# Altium footprint library Blueberry_PS.PcbLib: 38 footprints (part 2 of 3)
Each footprint in its own frame and in the unit in brackets; x right, y up, seen from the top. Pads: shape width x height; smd on the part's side, far side on the other; paste and mask are expansions set on the pad; w line width, h text height; cw(c..) or ccw(c..) is an arc to the next point about the centre after c.
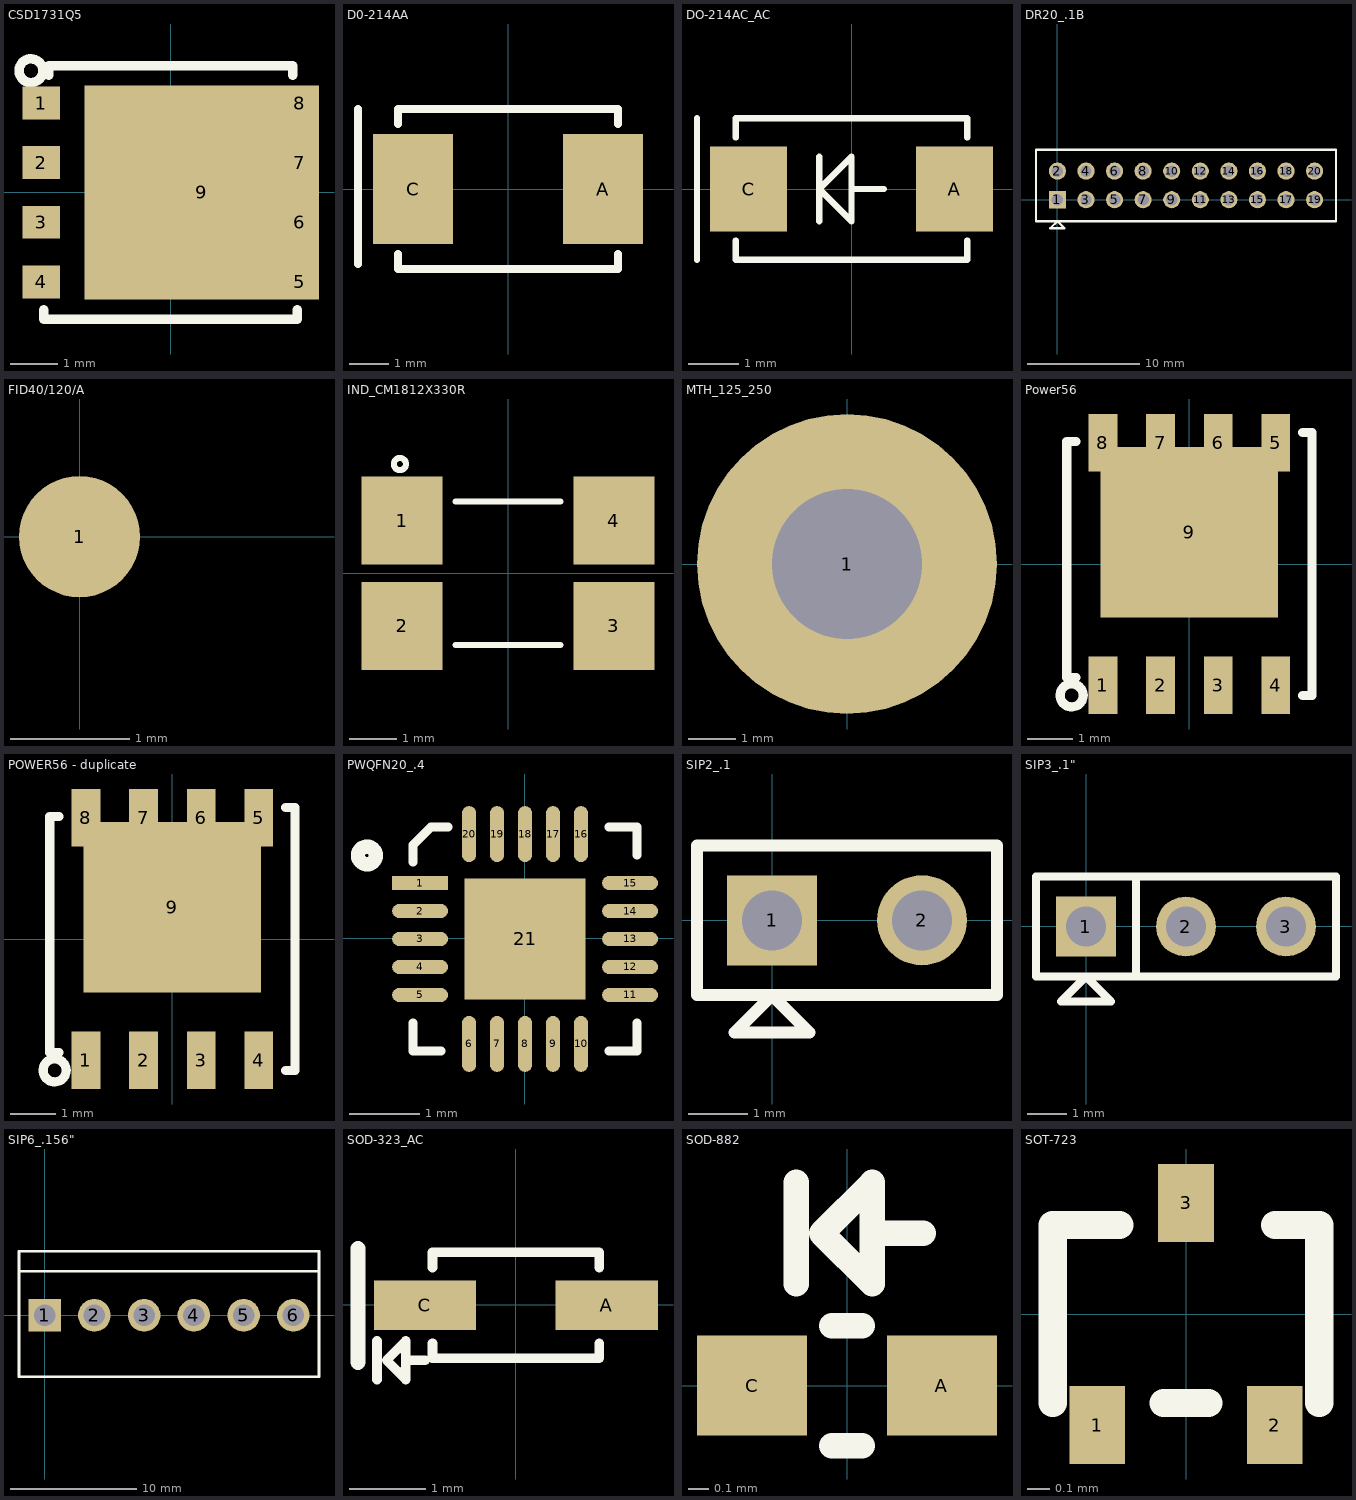
[diagram p1: the footprints below, top view; thin cyan lines are the x and y axes]

## CSD1731Q5 [mm]
pads (9):
  rect 0.8x0.7 smd: 1(-2.752,1.905) 2(-2.752,0.635) 3(-2.752,-0.635) 4(-2.752,-1.905) 5(2.752,-1.905) 6(2.752,-0.635) 7(2.752,0.635) 8(2.752,1.905)
  rect 5x4.56 smd: 9(0.66,0)
Top Overlay:
  circle w0.203: c-2.976,2.594 r0.254
  lines w0.203: -2.7,-2.5 -2.7,-2.7 2.7,-2.7 2.7,-2.5 ; -2.6,2.5 -2.6,2.7 2.6,2.7 2.6,2.5

## D0-214AA [mil]
pads (2):
  rect 80x110 smd: A(95,0) C(-95,0)
Top Overlay:
  lines w8: -150,-75 -150,80 ; -110,-65 -110,-80 110,-80 110,-65 ; -110,65 -110,80 110,80 110,65

## DO-214AC_AC [mil]
pads (2):
  rect 60x66 smd: A(80,0) C(-80,0)
Top Overlay:
  lines w5: -120,-55 -120,55 ; -90,-40 -90,-55 90,-55 90,-40 ; -90,40 -90,55 90,55 90,40 ; -25,-25 -25,25 ; 0,0 25,0 ; -25,0 0,25 0,-25 -25,0

## DR20_.1B [mil]
pads (20):
  rect 60x60 hole 40: 1(0,0)
  round 60 hole 40: 2(0,100) 3(100,0) 4(100,100) 5(200,0) 6(200,100) 7(300,0) 8(300,100) 9(400,0) 10(400,100) 11(500,0) 12(500,100) 13(600,0) 14(600,100) 15(700,0) 16(700,100) 17(800,0) 18(800,100) 19(900,0) 20(900,100)
Top Overlay:
  lines w8: -75,-75 975,-75 975,175 -75,175 -75,-75 ; -25,-100 25,-100 0,-75 -25,-100

## FID40/120/A [mil]
pads (1):
  round 40 smd: 1(0,0)
Top Overlay:

## IND_CM1812X330R [mm]
pads (4):
  rect 1.689x1.841 smd: 1(-2.214,1.101) 2(-2.214,-1.101) 3(2.214,-1.101) 4(2.214,1.101)
Top Overlay:
  circle w0.127: c-2.259,2.284 r0.127
  lines w0.127: -1.1,-1.5 1.1,-1.5 ; -1.1,1.5 1.1,1.5

## MTH_125_250 [mm]
pads (1):
  round 6.35 hole 3.175: 1(0,0)

## Power56 [mm]
pads (9):
  rect 0.635x1.27 smd: 1(-1.905,-2.67) 2(-0.635,-2.67) 3(0.635,-2.67) 4(1.905,-2.67) 5(1.905,2.67) 6(0.635,2.67) 7(-0.635,2.67) 8(-1.905,2.67)
  rect 3.91x3.75 smd: 9(0,0.7)
Top Overlay:
  circle w0.203: c-2.594,-2.894 r0.254
  lines w0.203: -2.5,-2.5 -2.7,-2.5 -2.7,2.7 -2.5,2.7 ; 2.5,-2.9 2.7,-2.9 2.7,2.9 2.5,2.9

## POWER56 - duplicate [mm]
pads (9):
  rect 0.635x1.27 smd: 1(-1.905,-2.67) 2(-0.635,-2.67) 3(0.635,-2.67) 4(1.905,-2.67) 5(1.905,2.67) 6(0.635,2.67) 7(-0.635,2.67) 8(-1.905,2.67)
  rect 3.91x3.75 smd: 9(0,0.7)
Top Overlay:
  circle w0.203: c-2.594,-2.894 r0.254
  lines w0.203: -2.5,-2.5 -2.7,-2.5 -2.7,2.7 -2.5,2.7 ; 2.5,-2.9 2.7,-2.9 2.7,2.9 2.5,2.9

## PWQFN20_.4 [mil]
pads (21):
  rect 31.5x8 smd: 1(-58.88,31.16)
  oval 31.5x8 smd: 2(-58.88,15.41) 3(-58.88,-0.34) 4(-58.88,-16.09) 5(-58.88,-31.84) 11(59.23,-31.84) 12(59.23,-16.09) 13(59.23,-0.34) 14(59.23,15.41) 15(59.23,31.16)
  oval 8x31.5 smd: 6(-31.32,-59.4) 7(-15.57,-59.4) 8(0.17,-59.4) 9(15.92,-59.4) 10(31.67,-59.4) 16(31.67,58.72) 17(15.92,58.72) 18(0.17,58.72) 19(-15.57,58.72) 20(-31.32,58.72)
  rect 68x68 smd: 21(0.17,-0.34)
Top Overlay:
  circle w8: c-88.83,46.66 r5
  lines w5: -62.82,-47.58 -62.82,-63.33 -47.07,-63.33 ; -62.82,42.97 -62.82,52.65 -52.82,62.65 -43.13,62.65 ; 47.42,-63.33 63.16,-63.33 63.16,-47.58 ; 47.42,62.65 63.16,62.65 63.16,46.9

## SIP2_.1 [mil]
pads (2):
  rect 60x60 hole 40: 1(0,0)
  round 60 hole 40: 2(100,0)
Top Overlay:
  lines w8: -50,-50 -50,50 150,50 150,-50 -50,-50 ; -25,-75 25,-75 0,-50 -25,-75

## SIP3_.1" [mil]
pads (3):
  rect 60x60 hole 40: 1(-0.46,-0.46)
  round 60 hole 40: 2(99.54,-0.46) 3(199.54,-0.46)
Top Overlay:
  lines w8: 49.54,-50.46 49.54,49.54 ; -50.46,-50.46 -50.46,49.54 249.54,49.54 249.54,-50.46 -50.46,-50.46 ; -25.46,-75.46 24.54,-75.46 -0.46,-50.46 -25.46,-75.46

## SIP6_.156" [mm]
pads (6):
  rect 2.6x2.6 hole 1.7: 1(0,0)
  round 2.6 hole 1.7: 2(3.96,0) 3(7.92,0) 4(11.88,0) 5(15.84,0) 6(19.8,0)
Top Overlay:
  lines w0.203: -2.038,3.5 21.838,3.5 ; -2.038,-4.9 -2.038,5.11 21.838,5.11 21.838,-4.9 -2.038,-4.9

## SOD-323_AC [mm]
pads (2):
  rect 1.35x0.65 smd: A(1.204,-0.009) C(-1.196,-0.009)
Top Overlay:
  lines w0.127: -1.828,-0.987 -1.828,-0.479 ; -1.447,-0.733 -1.193,-0.733 ; -1.096,-0.509 -1.096,-0.709 1.104,-0.709 1.104,-0.509 ; -1.096,0.491 -1.096,0.691 1.104,0.691 1.104,0.491 ; -1.701,-0.733 -1.447,-0.479 -1.447,-0.987 -1.701,-0.733
  lines w0.203: -2.078,-0.759 -2.078,0.741

## SOD-882 [mm]
pads (2):
  rect 0.55x0.5 smd: A(0.475,0) C(-0.475,0)
Top Overlay:
  lines w0.127: -0.254,0.508 -0.254,1.016 ; -0.076,-0.3 0.076,-0.3 ; -0.076,0.3 0.076,0.3 ; 0.127,0.762 0.381,0.762 ; -0.127,0.762 0.127,0.508 0.127,1.016 -0.127,0.762

## SOT-723 [mm]
pads (3):
  rect 0.25x0.35 smd: 1(-0.4,-0.5) 2(0.4,-0.5) 3(0,0.5)
Top Overlay:
  lines w0.127: -0.6,-0.4 -0.6,0.4 -0.3,0.4 ; -0.1,-0.4 0.1,-0.4 ; 0.4,0.4 0.6,0.4 0.6,-0.4